# Altium footprint library Axial Lead Diode.PcbLib: 17 footprints (part 1 of 2)
Each footprint in its own frame and in the unit in brackets; x right, y up, seen from the top. Pads: shape width x height; smd on the part's side, far side on the other; paste and mask are expansions set on the pad; w line width, h text height; cw(c..) or ccw(c..) is an arc to the next point about the centre after c.
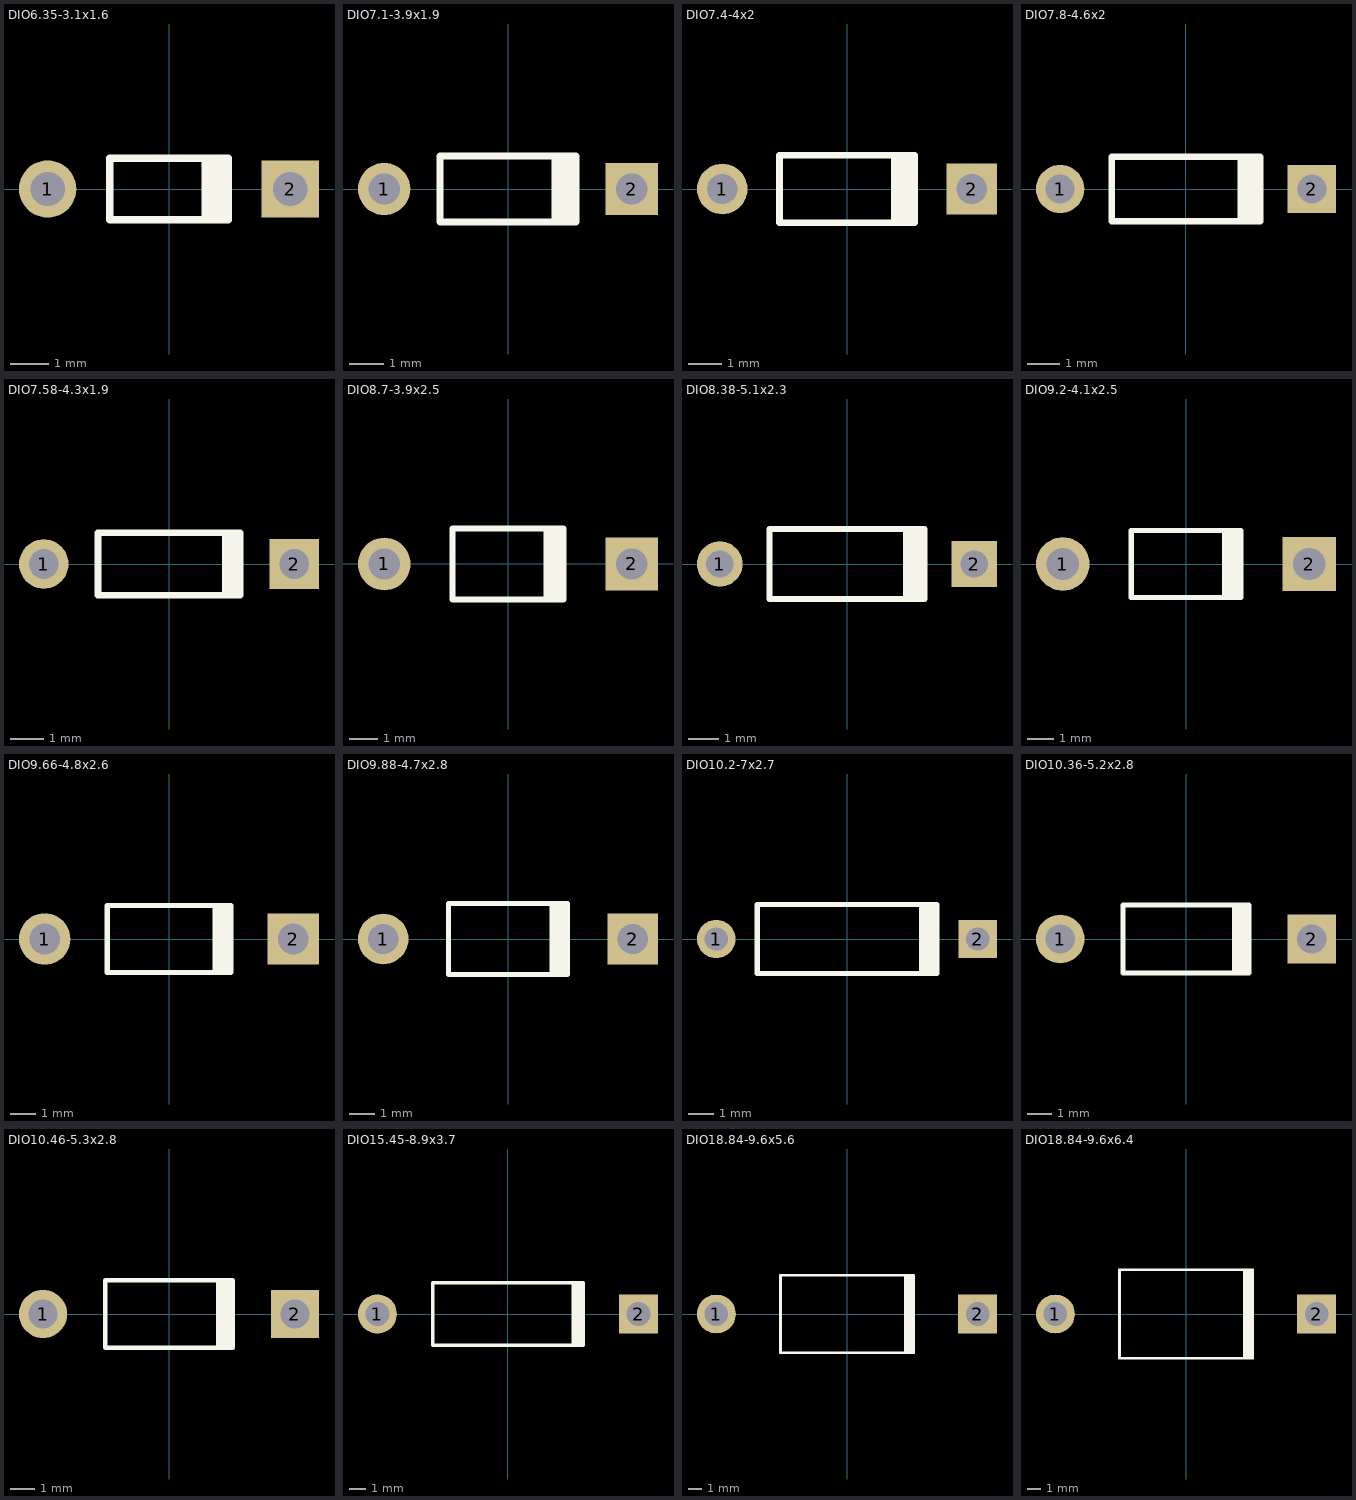
[diagram p0: the footprints below, top view; thin cyan lines are the x and y axes]

## DIO6.35-3.1x1.6 [mm] "Diode, Axial; Body 3 x 1.6 mm (LxDia. max), Lead Dia. 0.55 mm (max)"
height 1.6
pads (2):
  round 1.5 hole 0.9: 1(-3.175,0)
  rect 1.5x1.5 hole 0.9: 2(3.175,0)
Top Overlay:
  rectangle: 0.85,-0.8 1.65,0.8
  lines w0.2: 1.55,-0.8 -1.55,-0.8 -1.55,0.8 1.55,0.8

## DIO7.1-3.9x1.9 [mm] "Diode, Axial; Body 3.8 x 1.9 mm (LxDia. max), Lead Dia. 0.53 mm (max)"
height 1.9
pads (2):
  round 1.5 hole 0.9: 1(-3.55,0)
  rect 1.5x1.5 hole 0.9: 2(3.55,0)
Top Overlay:
  rectangle: 1.25,-0.95 2.05,0.95
  lines w0.2: 1.95,-0.95 -1.95,-0.95 -1.95,0.95 1.95,0.95

## DIO7.4-4x2 [mm] "Diode, Axial; Body 4 x 2 mm (LxDia. max), Lead Dia. 0.6 mm (max)"
height 2
pads (2):
  round 1.5 hole 0.9: 1(-3.7,0)
  rect 1.5x1.5 hole 0.9: 2(3.7,0)
Top Overlay:
  rectangle: 1.3,-1 2.1,1
  lines w0.2: 2,-1 -2,-1 -2,1 2,1

## DIO7.8-4.6x2 [mm] "Diode, Axial; Body 4.6 x 1.9 mm (LxDia. max), Lead Dia. 0.53 mm (max)"
height 2
pads (2):
  round 1.5 hole 0.9: 1(-3.9,0)
  rect 1.5x1.5 hole 0.9: 2(3.9,0)
Top Overlay:
  rectangle: 1.6,-1 2.4,1
  lines w0.2: 2.3,-1 -2.3,-1 -2.3,1 2.3,1

## DIO7.58-4.3x1.9 [mm] "Diode, Axial; Body 4.3 x 1.9 mm (LxDia. max), Lead Dia. 0.56 mm (max)"
height 1.9
pads (2):
  round 1.5 hole 0.9: 1(-3.79,0)
  rect 1.5x1.5 hole 0.9: 2(3.79,0)
Top Overlay:
  rectangle: 1.6,-0.95 2.25,0.95
  lines w0.2: 2.15,-0.95 -2.15,-0.95 -2.15,0.95 2.15,0.95

## DIO8.7-3.9x2.5 [mm] "Diode, Axial; Body 3.9 x 2.5 mm (LxDia. max), Lead Dia. 0.8 mm (max)"
height 2.5
pads (2):
  round 1.85 hole 1.1: 1(-4.35,0)
  rect 1.85x1.85 hole 1.1: 2(4.35,0)
Top Overlay:
  rectangle: 1.25,-1.25 2.05,1.25
  lines w0.2: 1.95,-1.25 -1.95,-1.25 -1.95,1.25 1.95,1.25

## DIO8.38-5.1x2.3 [mm] "Diode, Axial; Body 5.1 x 2.3 mm (LxDia. max), Lead Dia. 0.56 mm (max)"
height 2.3
pads (2):
  round 1.5 hole 0.9: 1(-4.19,0)
  rect 1.5x1.5 hole 0.9: 2(4.19,0)
Top Overlay:
  rectangle: 1.85,-1.15 2.65,1.15
  lines w0.2: 2.55,-1.15 -2.55,-1.15 -2.55,1.15 2.55,1.15

## DIO9.2-4.1x2.5 [mm] "Diode, Axial; Body 4.1 x 2.5 mm (LxDia. max), Lead Dia. 0.85 mm (max)"
height 2.5
pads (2):
  round 2 hole 1.2: 1(-4.6,0)
  rect 2x2 hole 1.2: 2(4.6,0)
Top Overlay:
  rectangle: 1.35,-1.25 2.15,1.25
  lines w0.2: 2.05,-1.25 -2.05,-1.25 -2.05,1.25 2.05,1.25

## DIO9.66-4.8x2.6 [mm] "Diode, Axial; Body 4.8 x 2.6 mm (LxDia. max), Lead Dia. 0.81 mm (max)"
height 2.6
pads (2):
  round 2 hole 1.2: 1(-4.83,0)
  rect 2x2 hole 1.2: 2(4.83,0)
Top Overlay:
  rectangle: 1.7,-1.3 2.5,1.3
  lines w0.2: 2.4,-1.3 -2.4,-1.3 -2.4,1.3 2.4,1.3

## DIO9.88-4.7x2.8 [mm] "Diode, Axial; Body 4.7 x 2.7 mm (LxDia. max), Lead Dia. 0.86 mm (max)"
height 2.8
pads (2):
  round 2 hole 1.2: 1(-4.94,0)
  rect 2x2 hole 1.2: 2(4.94,0)
Top Overlay:
  rectangle: 1.65,-1.4 2.45,1.4
  lines w0.2: 2.35,-1.4 -2.35,-1.4 -2.35,1.4 2.35,1.4

## DIO10.2-7x2.7 [mm] "Diode, Axial; Body 7 x 2.7 mm (LxDia. max), Lead Dia. 0.53 mm (max)"
height 2.7
pads (2):
  round 1.5 hole 0.9: 1(-5.1,0)
  rect 1.5x1.5 hole 0.9: 2(5.1,0)
Top Overlay:
  rectangle: 2.8,-1.35 3.6,1.35
  lines w0.2: 3.5,-1.35 -3.5,-1.35 -3.5,1.35 3.5,1.35

## DIO10.36-5.2x2.8 [mm] "Diode, Axial; Body 5.2 x 2.7 mm (LxDia. max), Lead Dia. 0.86 mm (max)"
height 2.8
pads (2):
  round 2 hole 1.2: 1(-5.18,0)
  rect 2x2 hole 1.2: 2(5.18,0)
Top Overlay:
  rectangle: 1.9,-1.4 2.7,1.4
  lines w0.2: 2.6,-1.4 -2.6,-1.4 -2.6,1.4 2.6,1.4

## DIO10.46-5.3x2.8 [mm] "Diode, Axial; Body 5.2 x 2.7 mm (LxDia. max), Lead Dia. 0.86 mm (max)"
height 2.8
pads (2):
  round 2 hole 1.2: 1(-5.23,0)
  rect 2x2 hole 1.2: 2(5.23,0)
Top Overlay:
  rectangle: 1.95,-1.4 2.75,1.4
  lines w0.2: 2.65,-1.4 -2.65,-1.4 -2.65,1.4 2.65,1.4

## DIO15.45-8.9x3.7 [mm] "Diode, Axial; Body 8.9 x 3.7 mm (LxDia. max), Lead Dia. 1.09 mm (max)"
height 3.7
pads (2):
  round 2.3 hole 1.4: 1(-7.725,0)
  rect 2.3x2.3 hole 1.4: 2(7.725,0)
Top Overlay:
  rectangle: 3.75,-1.85 4.55,1.85
  lines w0.2: 4.45,-1.85 -4.45,-1.85 -4.45,1.85 4.45,1.85

## DIO18.84-9.6x5.6 [mm] "Diode, Axial; Body 9.5 x 5.6 mm (LxDia. max), Lead Dia. 1.32 mm (max)"
height 5.6
pads (2):
  round 2.8 hole 1.7: 1(-9.42,0)
  rect 2.8x2.8 hole 1.7: 2(9.42,0)
Top Overlay:
  rectangle: 4.1,-2.8 4.9,2.8
  lines w0.2: 4.8,-2.8 -4.8,-2.8 -4.8,2.8 4.8,2.8

## DIO18.84-9.6x6.4 [mm] "Diode, Axial; Body 9.5 x 6.4 mm (LxDia. max), Lead Dia. 1.32 mm (max)"
height 6.4
pads (2):
  round 2.8 hole 1.7: 1(-9.42,0)
  rect 2.8x2.8 hole 1.7: 2(9.42,0)
Top Overlay:
  rectangle: 4.1,-3.2 4.9,3.2
  lines w0.2: 4.8,-3.2 -4.8,-3.2 -4.8,3.2 4.8,3.2